# EAGLE library part HEADER-1X09 (library nanoRF)
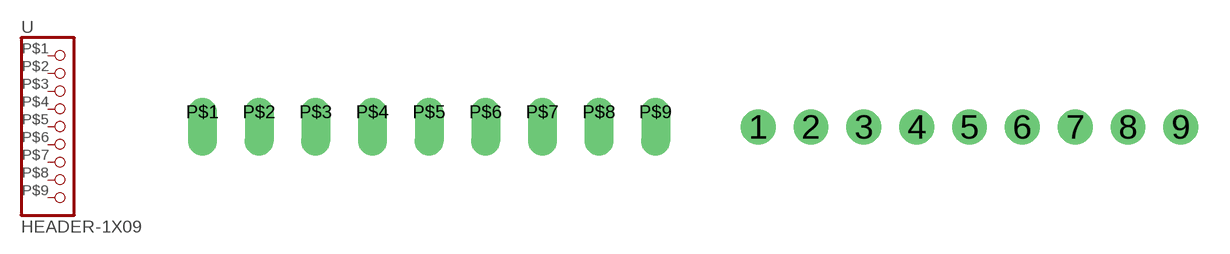
[diagram p4: symbol with the pads of 1X09_LONG; footprints 1X09_LONG, 1X09_ROUND_70]

Designator prefix -

## HEADER-1X09LONG  [1X09_LONG]
P$1  1  pas
P$2  2  pas
P$3  3  pas
P$4  4  pas
P$5  5  pas
P$6  6  pas
P$7  7  pas
P$8  8  pas
P$9  9  pas

## HEADER-1X09RND  [1X09_ROUND_70]
1  1  pas
2  2  pas
3  3  pas
4  4  pas
5  5  pas
6  6  pas
7  7  pas
8  8  pas
9  9  pas

## Footprint 1X09_LONG (pad centres in mm)
drill 0.8 offset: P$1 -10.16,0; P$2 -7.62,0; P$3 -5.08,0; P$4 -2.54,0; P$5 0,0; P$6 2.54,0; P$7 5.08,0; P$8 7.62,0; P$9 10.16,0

## Footprint 1X09_ROUND_70 (pad centres in mm)
drill 1 pad 1.676: 1 -10.16,0; 2 -7.62,0; 3 -5.08,0; 4 -2.54,0; 5 0,0; 6 2.54,0; 7 5.08,0; 8 7.62,0; 9 10.16,0